# Altium integrated library NXP Semiconductors Standard MOSFETs.IntLib: 477 symbols (part 14 of 14)
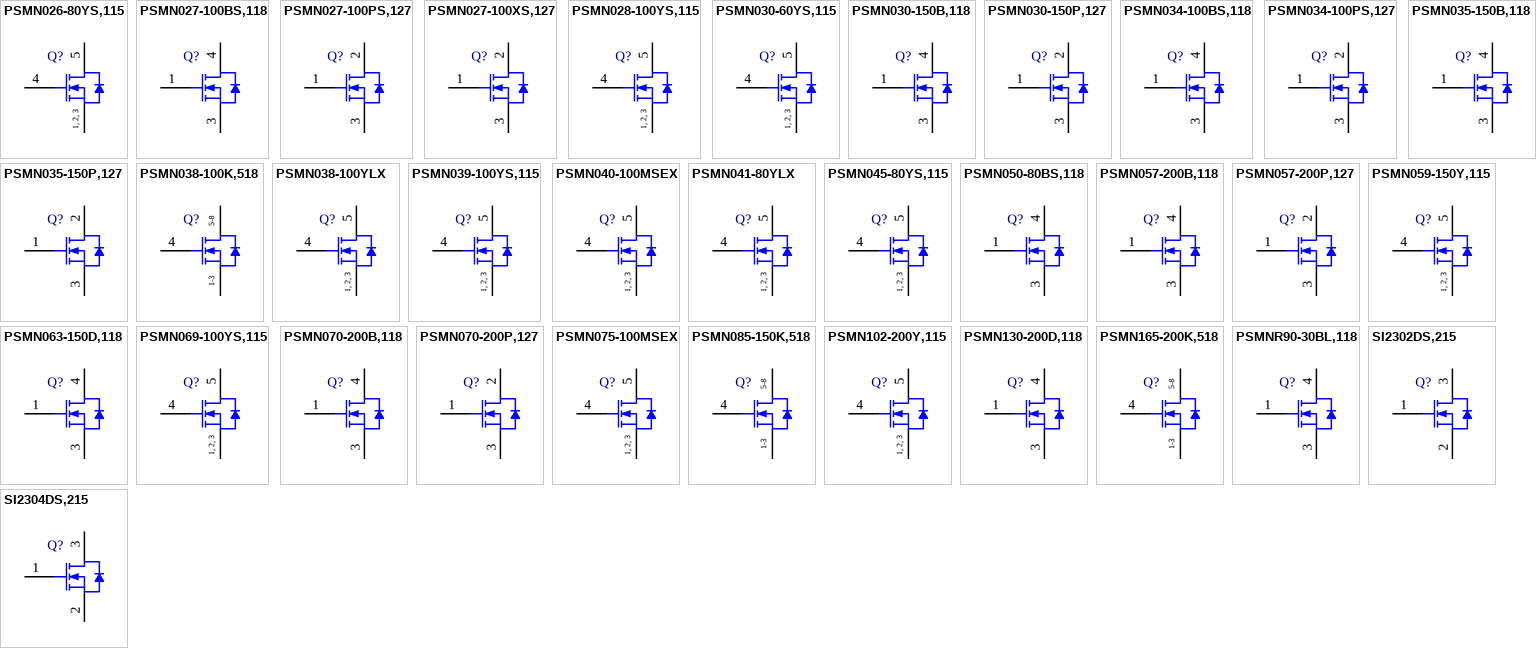
[diagram p25: symbols PSMN026-80YS,115 to SI2304DS,215]

## PSMN027-100BS,118
designator Q?
N-Channel Standard Level MOSFET, 100 V, 37 A, 3-Pin SOT404, Tape and Reel; Manufacturer: NXP Semiconductors; PartNumber: PSMN027-100BS,118; Channel Type: N; Ciss [typ] (pF): 1624; Coss [typ] (pF): 115; ID [max] (A): 37; Packing: Tape & Reel; Qr [typ] (nC): 91; VDS [max] (V): 100; VGSth [typ] (V): 3; DatasheetVersion: Rev. 2; PackageVersion: 13-02-25, 02/2013; PackageReference: SOT404; PackageDescription: 3-Pin Plastic Single-ended Surface Mounted Package, Body 10 x 9.6 mm, Pitch 2.54 mm; Supplier 1: Digi-Key; Supplier Part Number 1: 568-9701-2-ND; Supplier 2: Digi-Key; Supplier Part Number 2: 568-9701-1-ND; Supplier 3: Digi-Key; Supplier Part Number 3: 568-9701-6-ND; Supplier 4: Mouser; Supplier Part Number 4: 771-PSMN027-100BS118; Mounting Technology: Surface Mount; ComponentLink1Description: Manufacturer URL; ComponentLink1URL: http://www.nxp.com/; ComponentLink2Description: Datasheet; ComponentLink2URL: http://www.nxp.com/documents/data_sheet/PSMN027-100BS.pdf; ComponentLink3Description: Package Specification; ComponentLink3URL: http://www.nxp.com/documents/outline_drawing/sot404_po.pdf
footprint NXP-SOT404_N (DPAK, 3-Leads, Body 10.3x9.8mm, Pitch 2.54mm, IPC Medium Density)
footprint NXP-SOT404_L (DPAK, 3-Leads, Body 10.3x9.8mm, Pitch 2.54mm, IPC High Density)
footprint NXP-SOT404_M (DPAK, 3-Leads, Body 10.3x9.8mm, Pitch 2.54mm, IPC Low Density)
pins: 1 G "gate", 3 S "source", 4 D "mounting base; connected to drain"

## PSMN027-100PS,127
designator Q?
N-Channel Standard Level MOSFET, 100 V, 37 A, 3-Pin SOT78, Tube; Manufacturer: NXP Semiconductors; PartNumber: PSMN027-100PS,127; Channel Type: N; Ciss [typ] (pF): 1624; Coss [typ] (pF): 115; ID [max] (A): 37; Qr [typ] (nC): 91; VDS [max] (V): 100; VGSth [typ] (V): 3; DatasheetVersion: Rev. 3; PackageVersion: 08-06-13, 06/2008; PackageReference: SOT78; PackageDescription: 3-Pin Flange Mount, Vertical Straight Lead, Body 10 x 4.4 mm, Pitch 2.54 mm; Supplier 1: Digi-Key; Supplier Part Number 1: 568-5775-5-ND; Supplier 2: Mouser; Supplier Part Number 2: 771-PSMN027-100PS127; Packing: Tube; Mounting Technology: Through Hole; Code_JEITA: SC-46; Code_JEDEC: 3-lead TO-220AB; ComponentLink1Description: Manufacturer URL; ComponentLink1URL: http://www.nxp.com/; ComponentLink2Description: Datasheet; ComponentLink2URL: http://www.nxp.com/documents/data_sheet/PSMN027-100PS.pdf; ComponentLink3Description: Package Specification; ComponentLink3URL: http://www.nxp.com/documents/outline_drawing/sot078_po.pdf
footprint NXP-SOT78 (FM, 3-Leads, Body 10.3x4.7mm, Pitch 2.54mm)
pins: 1 G "gate", 2 D "drain", 3 S "source"

## PSMN027-100XS,127
designator Q?
N-Channel Standard Level MOSFET, 100 V, 23.4 A, 3-Pin SOT186A, Rail; Manufacturer: NXP Semiconductors; PartNumber: PSMN027-100XS,127; Channel Type: N; Ciss [typ] (pF): 1624; Coss [typ] (pF): 115; ID [max] (A): 23.4; Qr [typ] (nC): 73; VDS [max] (V): 100; VGSth [typ] (V): 3; DatasheetVersion: Rev. 2; PackageVersion: 06-02-14, 02/2006; PackageReference: SOT186A; PackageDescription: 3-Pin Flange Mount, Vertical Straight Lead, Body 10 x 4.3 mm, Pitch 2.54 mm; Supplier 1: Digi-Key; Supplier Part Number 1: 568-9501-5-ND; Supplier 2: Mouser; Supplier Part Number 2: 771-PSMN027-100XS127; Packing: Rail; Mounting Technology: Through Hole; Code_JEDEC: 3-lead TO-220F; ComponentLink1Description: Manufacturer URL; ComponentLink1URL: http://www.nxp.com/; ComponentLink2Description: Datasheet; ComponentLink2URL: http://www.nxp.com/documents/data_sheet/PSMN027-100XS.pdf; ComponentLink3Description: Package Specification; ComponentLink3URL: http://www.nxp.com/documents/outline_drawing/sot186a_po.pdf
footprint NXP-SOT186A (FM, 3-Leads, Body 10.3x4.6mm, Pitch 2.54mm)
pins: 1 G "gate", 2 D "drain", 3 S "source"

## PSMN028-100YS,115
designator Q?
N-Channel Standard Level MOSFET, 100 V, 42 A, 5-Pin SOT669, Tape and Reel; Manufacturer: NXP Semiconductors; PartNumber: PSMN028-100YS,115; Channel Type: N; Ciss [typ] (pF): 1634; Coss [typ] (pF): 132; ID [max] (A): 42; Packing: Tape & Reel; Qr [typ] (nC): 95.7; VDS [max] (V): 100; VGSth [typ] (V): 3; DatasheetVersion: Rev. 02; PackageVersion: 13-02-27, 02/2013; PackageReference: SOT669; PackageDescription: 4-Pin Plastic Single-ended Surface Mounted Package, Body 4.9 x 3.95 mm, Pitch 1.27 mm; Supplier 1: Digi-Key; Supplier Part Number 1: 568-6543-2-ND; Supplier 2: Digi-Key; Supplier Part Number 2: 568-6543-1-ND; Supplier 3: Digi-Key; Supplier Part Number 3: 568-6543-6-ND; Supplier 4: Mouser; Supplier Part Number 4: 771-PSMN028-100YS115; Mounting Technology: Surface Mount; Code_JEDEC: MO-235; ComponentLink1Description: Manufacturer URL; ComponentLink1URL: http://www.nxp.com/; ComponentLink2Description: Datasheet; ComponentLink2URL: http://www.nxp.com/documents/data_sheet/PSMN028-100YS.pdf; ComponentLink3Description: Package Specification; ComponentLink3URL: http://www.nxp.com/documents/outline_drawing/sot669_po.pdf
footprint NXP-SOT669_N (DPAK, 4-Leads, Body 5x4.1mm, Pitch 1.27mm, IPC Medium Density)
footprint NXP-SOT669_L (DPAK, 4-Leads, Body 5x4.1mm, Pitch 1.27mm, IPC High Density)
footprint NXP-SOT669_M (DPAK, 4-Leads, Body 5x4.1mm, Pitch 1.27mm, IPC Low Density)
pins: 1 S "source", 2 S "source", 3 S "source", 4 G "gate", 5 D "mounting base; connected to drain"
text: 1, 2, 3

## PSMN030-60YS,115
designator Q?
N-Channel Standard Level MOSFET, 60 V, 29 A, 5-Pin SOT669, Tape and Reel; Manufacturer: NXP Semiconductors; PartNumber: PSMN030-60YS,115; Channel Type: N; Ciss [typ] (pF): 686; Coss [typ] (pF): 109; ID [max] (A): 29; Packing: Tape & Reel; Qr [typ] (nC): 23; VDS [max] (V): 60; VGSth [typ] (V): 3; DatasheetVersion: Rev. 02; PackageVersion: 13-02-27, 02/2013; PackageReference: SOT669; PackageDescription: 4-Pin Plastic Single-ended Surface Mounted Package, Body 4.9 x 3.95 mm, Pitch 1.27 mm; Supplier 1: Digi-Key; Supplier Part Number 1: 568-5584-2-ND; Supplier 2: Digi-Key; Supplier Part Number 2: 568-5584-1-ND; Supplier 3: Digi-Key; Supplier Part Number 3: 568-5584-6-ND; Supplier 4: Mouser; Supplier Part Number 4: 771-PSMN030-60YS115; Mounting Technology: Surface Mount; Code_JEDEC: MO-235; ComponentLink1Description: Manufacturer URL; ComponentLink1URL: http://www.nxp.com/; ComponentLink2Description: Datasheet; ComponentLink2URL: http://www.nxp.com/documents/data_sheet/PSMN030-60YS.pdf; ComponentLink3Description: Package Specification; ComponentLink3URL: http://www.nxp.com/documents/outline_drawing/sot669_po.pdf
footprint NXP-SOT669_N (DPAK, 4-Leads, Body 5x4.1mm, Pitch 1.27mm, IPC Medium Density)
footprint NXP-SOT669_L (DPAK, 4-Leads, Body 5x4.1mm, Pitch 1.27mm, IPC High Density)
footprint NXP-SOT669_M (DPAK, 4-Leads, Body 5x4.1mm, Pitch 1.27mm, IPC Low Density)
pins: 1 S "source", 2 S "source", 3 S "source", 4 G "gate", 5 D "mounting base; connected to drain"
text: 1, 2, 3

## PSMN030-150B,118
designator Q?
N-Channel TrenchMOS SiliconMAX Standard Level FET, 150 V, 55.5 A, 3-Pin SOT404, Tape and Reel; Manufacturer: NXP Semiconductors; PartNumber: PSMN030-150B,118; Channel Type: N; Ciss [typ] (pF): 3680; Coss [typ] (pF): 470; ID [max] (A): 55.5; Packing: Tape & Reel; Qr [typ] (nC): 610; VDS [max] (V): 150; VGSth [typ] (V): 3; DatasheetVersion: Rev. 02; PackageVersion: 13-02-25, 02/2013; PackageReference: SOT404; PackageDescription: 3-Pin Plastic Single-ended Surface Mounted Package, Body 10 x 9.6 mm, Pitch 2.54 mm; Supplier 1: Digi-Key; Supplier Part Number 1: 568-5950-2-ND; Supplier 2: Digi-Key; Supplier Part Number 2: 568-5950-1-ND; Supplier 3: Digi-Key; Supplier Part Number 3: 568-5950-6-ND; Supplier 4: Mouser; Supplier Part Number 4: 771-PSMN030-150B118; Mounting Technology: Surface Mount; ComponentLink1Description: Manufacturer URL; ComponentLink1URL: http://www.nxp.com/; ComponentLink2Description: Datasheet; ComponentLink2URL: http://www.nxp.com/documents/data_sheet/PSMN030-150B.pdf; ComponentLink3Description: Package Specification; ComponentLink3URL: http://www.nxp.com/documents/outline_drawing/sot404_po.pdf
footprint NXP-SOT404_N (DPAK, 3-Leads, Body 10.3x9.8mm, Pitch 2.54mm, IPC Medium Density)
footprint NXP-SOT404_L (DPAK, 3-Leads, Body 10.3x9.8mm, Pitch 2.54mm, IPC High Density)
footprint NXP-SOT404_M (DPAK, 3-Leads, Body 10.3x9.8mm, Pitch 2.54mm, IPC Low Density)
pins: 1 G "gate", 3 S "source", 4 D "mounting base; connected to drain"

## PSMN030-150P,127
designator Q?
N-Channel TrenchMOS SiliconMAX Standard Level FET, 150 V, 55.5 A, 3-Pin SOT78, Tube; Manufacturer: NXP Semiconductors; PartNumber: PSMN030-150P,127; Channel Type: N; Ciss [typ] (pF): 3680; Coss [typ] (pF): 470; ID [max] (A): 55.5; Qr [typ] (nC): 610; VDS [max] (V): 150; VGSth [typ] (V): 3; DatasheetVersion: Rev. 02; PackageVersion: 08-06-13, 06/2008; PackageReference: SOT78; PackageDescription: 3-Pin Flange Mount, Vertical Straight Lead, Body 10 x 4.4 mm, Pitch 2.54 mm; Supplier 1: Digi-Key; Supplier Part Number 1: 568-5776-5-ND; Supplier 2: Newark; Supplier Part Number 2: 70R7938; Supplier 3: Mouser; Supplier Part Number 3: 771-PSMN030-150P127; Packing: Tube; Mounting Technology: Through Hole; Code_JEITA: SC-46; Code_JEDEC: 3-lead TO-220AB; ComponentLink1Description: Manufacturer URL; ComponentLink1URL: http://www.nxp.com/; ComponentLink2Description: Datasheet; ComponentLink2URL: http://www.nxp.com/documents/data_sheet/PSMN030-150P.pdf; ComponentLink3Description: Package Specification; ComponentLink3URL: http://www.nxp.com/documents/outline_drawing/sot078_po.pdf
footprint NXP-SOT78 (FM, 3-Leads, Body 10.3x4.7mm, Pitch 2.54mm)
pins: 1 G "gate", 2 D "drain", 3 S "source"

## PSMN034-100BS,118
designator Q?
N-Channel Standard Level MOSFET, 100 V, 32 A, 3-Pin SOT404, Tape and Reel; Manufacturer: NXP Semiconductors; PartNumber: PSMN034-100BS,118; Channel Type: N; Ciss [typ] (pF): 1201; Coss [typ] (pF): 94; ID [max] (A): 32; Packing: Tape & Reel; Qr [typ] (nC): 59; VDS [max] (V): 100; VGSth [typ] (V): 3; DatasheetVersion: Rev. 2; PackageVersion: 13-02-25, 02/2013; PackageReference: SOT404; PackageDescription: 3-Pin Plastic Single-ended Surface Mounted Package, Body 10 x 9.6 mm, Pitch 2.54 mm; Supplier 1: Digi-Key; Supplier Part Number 1: 568-9702-2-ND; Supplier 2: Digi-Key; Supplier Part Number 2: 568-9702-1-ND; Supplier 3: Digi-Key; Supplier Part Number 3: 568-9702-6-ND; Supplier 4: Mouser; Supplier Part Number 4: 771-PSMN034-100BS118; Mounting Technology: Surface Mount; ComponentLink1Description: Manufacturer URL; ComponentLink1URL: http://www.nxp.com/; ComponentLink2Description: Datasheet; ComponentLink2URL: http://www.nxp.com/documents/data_sheet/PSMN034-100BS.pdf; ComponentLink3Description: Package Specification; ComponentLink3URL: http://www.nxp.com/documents/outline_drawing/sot404_po.pdf
footprint NXP-SOT404_N (DPAK, 3-Leads, Body 10.3x9.8mm, Pitch 2.54mm, IPC Medium Density)
footprint NXP-SOT404_L (DPAK, 3-Leads, Body 10.3x9.8mm, Pitch 2.54mm, IPC High Density)
footprint NXP-SOT404_M (DPAK, 3-Leads, Body 10.3x9.8mm, Pitch 2.54mm, IPC Low Density)
pins: 1 G "gate", 3 S "source", 4 D "mounting base; connected to drain"

## PSMN034-100PS,127
designator Q?
N-Channel Standard Level MOSFET, 100 V, 32 A, 3-Pin SOT78, Tube; Manufacturer: NXP Semiconductors; PartNumber: PSMN034-100PS,127; Channel Type: N; Ciss [typ] (pF): 1201; Coss [typ] (pF): 94; ID [max] (A): 32; Qr [typ] (nC): 59; VDS [max] (V): 100; VGSth [typ] (V): 3; DatasheetVersion: Rev. 02; PackageVersion: 08-06-13, 06/2008; PackageReference: SOT78; PackageDescription: 3-Pin Flange Mount, Vertical Straight Lead, Body 10 x 4.4 mm, Pitch 2.54 mm; Supplier 1: Digi-Key; Supplier Part Number 1: 568-5777-5-ND; Supplier 2: Mouser; Supplier Part Number 2: 771-PSMN034-100PS127; Packing: Tube; Mounting Technology: Through Hole; Code_JEITA: SC-46; Code_JEDEC: 3-lead TO-220AB; ComponentLink1Description: Manufacturer URL; ComponentLink1URL: http://www.nxp.com/; ComponentLink2Description: Datasheet; ComponentLink2URL: http://www.nxp.com/documents/data_sheet/PSMN034-100PS.pdf; ComponentLink3Description: Package Specification; ComponentLink3URL: http://www.nxp.com/documents/outline_drawing/sot078_po.pdf
footprint NXP-SOT78 (FM, 3-Leads, Body 10.3x4.7mm, Pitch 2.54mm)
pins: 1 G "gate", 2 D "drain", 3 S "source"

## PSMN035-150B,118
designator Q?
N-Channel TrenchMOS SiliconMAX Standard Level FET, 150 V, 50 A, 3-Pin SOT404, Tape and Reel; Manufacturer: NXP Semiconductors; PartNumber: PSMN035-150B,118; Channel Type: N; Ciss [typ] (pF): 4720; Coss [typ] (pF): 456; ID [max] (A): 50; Packing: Tape & Reel; Qr [typ] (nC): 0.66; VDS [max] (V): 150; VGSth [typ] (V): 3; DatasheetVersion: Rev. 04; PackageVersion: 13-02-25, 02/2013; PackageReference: SOT404; PackageDescription: 3-Pin Plastic Single-ended Surface Mounted Package, Body 10 x 9.6 mm, Pitch 2.54 mm; Supplier 1: Digi-Key; Supplier Part Number 1: 568-5951-2-ND; Supplier 2: Digi-Key; Supplier Part Number 2: 568-5951-1-ND; Supplier 3: Digi-Key; Supplier Part Number 3: 568-5951-6-ND; Supplier 4: Mouser; Supplier Part Number 4: 771-PSMN035-150B118; Mounting Technology: Surface Mount; ComponentLink1Description: Manufacturer URL; ComponentLink1URL: http://www.nxp.com/; ComponentLink2Description: Datasheet; ComponentLink2URL: http://www.nxp.com/documents/data_sheet/PSMN035-150B.pdf; ComponentLink3Description: Package Specification; ComponentLink3URL: http://www.nxp.com/documents/outline_drawing/sot404_po.pdf
footprint NXP-SOT404_N (DPAK, 3-Leads, Body 10.3x9.8mm, Pitch 2.54mm, IPC Medium Density)
footprint NXP-SOT404_L (DPAK, 3-Leads, Body 10.3x9.8mm, Pitch 2.54mm, IPC High Density)
footprint NXP-SOT404_M (DPAK, 3-Leads, Body 10.3x9.8mm, Pitch 2.54mm, IPC Low Density)
pins: 1 G "gate", 3 S "source", 4 D "mounting base; connected to drain"

## PSMN035-150P,127
designator Q?
N-Channel TrenchMOS SiliconMAX Standard Level FET, 150 V, 50 A, 3-Pin SOT78, Tube; Manufacturer: NXP Semiconductors; PartNumber: PSMN035-150P,127; Channel Type: N; Ciss [typ] (pF): 4720; Coss [typ] (pF): 456; ID [max] (A): 50; Qr [typ] (nC): 0.66; VDS [max] (V): 150; VGSth [typ] (V): 3; DatasheetVersion: Rev. 04; PackageVersion: 08-06-13, 06/2008; PackageReference: SOT78; PackageDescription: 3-Pin Flange Mount, Vertical Straight Lead, Body 10 x 4.4 mm, Pitch 2.54 mm; Supplier 1: Digi-Key; Supplier Part Number 1: 568-5778-5-ND; Supplier 2: Mouser; Supplier Part Number 2: 771-PSMN035-150P127; Packing: Tube; Mounting Technology: Through Hole; Code_JEITA: SC-46; Code_JEDEC: 3-lead TO-220AB; ComponentLink1Description: Manufacturer URL; ComponentLink1URL: http://www.nxp.com/; ComponentLink2Description: Datasheet; ComponentLink2URL: http://www.nxp.com/documents/data_sheet/PSMN035-150P.pdf; ComponentLink3Description: Package Specification; ComponentLink3URL: http://www.nxp.com/documents/outline_drawing/sot078_po.pdf
footprint NXP-SOT78 (FM, 3-Leads, Body 10.3x4.7mm, Pitch 2.54mm)
pins: 1 G "gate", 2 D "drain", 3 S "source"

## PSMN038-100K,518
designator Q?
N-Channel TrenchMOS SiliconMAX Standard Level FET, 100 V, 6.3 A, 8-Pin SOT96-1, Reel; Manufacturer: NXP Semiconductors; PartNumber: PSMN038-100K,518; Channel Type: N; Ciss [typ] (pF): 1740; Coss [typ] (pF): 220; Qr [typ] (nC): 300; VDS [max] (V): 100; Code_IEC: 76000; DatasheetVersion: Rev. 02; PackageVersion: 03-02-18, 02/2003; PackageReference: SOT96-1; PackageDescription: 8-Pin Plastic Small Outline Package, Body 4.9 x 3.9 mm, Pitch 1.27 mm; Supplier 1: Digi-Key; Supplier Part Number 1: PSMN038-100K,518-ND; Supplier 2: Mouser; Supplier Part Number 2: 771-PSMN038-100K518; Packing: Reel; Mounting Technology: Surface Mount; Code_JEDEC: MS-012; ComponentLink1Description: Manufacturer URL; ComponentLink1URL: http://www.nxp.com/; ComponentLink2Description: Datasheet; ComponentLink2URL: http://www.nxp.com/documents/data_sheet/PSMN038-100K.pdf; ComponentLink3Description: Package Specification; ComponentLink3URL: http://www.nxp.com/documents/outline_drawing/sot096-1_po.pdf
footprint NXP-SOT96-1_N (SOIC, 8-Leads, Body 5x4mm, Pitch 1.27mm, IPC Medium Density)
footprint NXP-SOT96-1_L (SOIC, 8-Leads, Body 5x4mm, Pitch 1.27mm, IPC High Density)
footprint NXP-SOT96-1_M (SOIC, 8-Leads, Body 5x4mm, Pitch 1.27mm, IPC Low Density)
pins: 1 S "source", 2 S "source", 3 S "source", 4 G "gate", 5 D "drain", 6 D "drain", 7 D "drain", 8 D "drain"
text: 5-8; 1-3

## PSMN038-100YLX
designator Q?
N-Channel Logic Level MOSFET, 100 V, 30 A, 5-Pin SOT669, Tape and Reel; Manufacturer: NXP Semiconductors; PartNumber: PSMN038-100YLX; Channel Type: N; Ciss [typ] (pF): 1905; Coss [typ] (pF): 137; ID [max] (A): 30; Packing: Tape & Reel; Qr [typ] (nC): 44; VDS [max] (V): 100; VGSth [typ] (V): 1.7; PackageVersion: 13-02-27, 02/2013; PackageReference: SOT669; PackageDescription: 4-Pin Plastic Single-ended Surface Mounted Package, Body 4.9 x 3.95 mm, Pitch 1.27 mm; Supplier 1: Digi-Key; Supplier Part Number 1: 568-11429-2-ND; Supplier 2: Digi-Key; Supplier Part Number 2: 568-11429-1-ND; Supplier 3: Digi-Key; Supplier Part Number 3: 568-11429-6-ND; Supplier 4: Mouser; Supplier Part Number 4: 771-PSMN038100YLX; Mounting Technology: Surface Mount; Code_JEDEC: MO-235; ComponentLink1Description: Manufacturer URL; ComponentLink1URL: http://www.nxp.com/; ComponentLink2Description: Datasheet; ComponentLink2URL: http://www.nxp.com/documents/data_sheet/PSMN038-100YL.pdf; ComponentLink3Description: Package Specification; ComponentLink3URL: http://www.nxp.com/documents/outline_drawing/sot669_po.pdf
footprint NXP-SOT669_N (DPAK, 4-Leads, Body 5x4.1mm, Pitch 1.27mm, IPC Medium Density)
footprint NXP-SOT669_L (DPAK, 4-Leads, Body 5x4.1mm, Pitch 1.27mm, IPC High Density)
footprint NXP-SOT669_M (DPAK, 4-Leads, Body 5x4.1mm, Pitch 1.27mm, IPC Low Density)
pins: 1 S "source", 2 S "source", 3 S "source", 4 G "gate", 5 D "mounting base; connected to drain"
text: 1, 2, 3

## PSMN039-100YS,115
designator Q?
N-Channel Standard Level MOSFET, 100 V, 28.1 A, 5-Pin SOT669, Tape and Reel; Manufacturer: NXP Semiconductors; PartNumber: PSMN039-100YS,115; Channel Type: N; Ciss [typ] (pF): 1847; Coss [typ] (pF): 86; ID [max] (A): 28.1; Packing: Tape & Reel; Qr [typ] (nC): 78; VDS [max] (V): 100; VGSth [typ] (V): 3; DatasheetVersion: Rev. 02; PackageVersion: 13-02-27, 02/2013; PackageReference: SOT669; PackageDescription: 4-Pin Plastic Single-ended Surface Mounted Package, Body 4.9 x 3.95 mm, Pitch 1.27 mm; Supplier 1: Digi-Key; Supplier Part Number 1: 568-5586-2-ND; Supplier 2: Digi-Key; Supplier Part Number 2: 568-5586-1-ND; Supplier 3: Digi-Key; Supplier Part Number 3: 568-5586-6-ND; Supplier 4: Mouser; Supplier Part Number 4: 771-PSMN039-100YS115; Mounting Technology: Surface Mount; Code_JEDEC: MO-235; ComponentLink1Description: Manufacturer URL; ComponentLink1URL: http://www.nxp.com/; ComponentLink2Description: Datasheet; ComponentLink2URL: http://www.nxp.com/documents/data_sheet/PSMN039-100YS.pdf; ComponentLink3Description: Package Specification; ComponentLink3URL: http://www.nxp.com/documents/outline_drawing/sot669_po.pdf
footprint NXP-SOT669_N (DPAK, 4-Leads, Body 5x4.1mm, Pitch 1.27mm, IPC Medium Density)
footprint NXP-SOT669_L (DPAK, 4-Leads, Body 5x4.1mm, Pitch 1.27mm, IPC High Density)
footprint NXP-SOT669_M (DPAK, 4-Leads, Body 5x4.1mm, Pitch 1.27mm, IPC Low Density)
pins: 1 S "source", 2 S "source", 3 S "source", 4 G "gate", 5 D "mounting base; connected to drain"
text: 1, 2, 3

## PSMN040-100MSEX
designator Q?
N-Channel Standard Level MOSFET Designed Specifically for High Power PoE Applications, 100 V, 30 A, 5-Pin SOT1210, Reel; Manufacturer: NXP Semiconductors; PartNumber: PSMN040-100MSEX; Channel Type: N; Ciss [typ] (pF): 1470; Coss [typ] (pF): 110; ID [max] (A): 30; Qr [typ] (nC): 75; VDS [max] (V): 100; VGSth [typ] (V): 3.3; PackageVersion: 14-04-25, 04/2014; PackageReference: SOT1210; PackageDescription: 8-Pin Plastic Single-ended Surface Mounted Package, Body 3.3 x 2.6 mm, Pitch 0.65 mm; Supplier 1: Digi-Key; Supplier Part Number 1: 568-10232-2-ND; Supplier 2: Digi-Key; Supplier Part Number 2: 568-10232-1-ND; Supplier 3: Digi-Key; Supplier Part Number 3: 568-10232-6-ND; Supplier 4: Mouser; Supplier Part Number 4: 771-PSMN040-100MSEX; Packing: Reel; Mounting Technology: Surface Mount; ComponentLink1Description: Manufacturer URL; ComponentLink1URL: http://www.nxp.com/; ComponentLink2Description: Datasheet; ComponentLink2URL: http://www.nxp.com/documents/data_sheet/PSMN040-100MSE.pdf; ComponentLink3Description: Package Specification; ComponentLink3URL: http://www.nxp.com/documents/outline_drawing/sot1210_po.pdf
footprint NXP-SOT1210_N (DPAK, 5-Leads, Body 3.4x2.7mm, Pitch 0.65mm, IPC Medium Density)
footprint NXP-SOT1210_L (DPAK, 5-Leads, Body 3.4x2.7mm, Pitch 0.65mm, IPC High Density)
footprint NXP-SOT1210_M (DPAK, 5-Leads, Body 3.4x2.7mm, Pitch 0.65mm, IPC Low Density)
pins: 1 S "source", 2 S "source", 3 S "source", 4 G "gate", 5 D "mounting base; connected to drain"
text: 1, 2, 3

## PSMN041-80YLX
designator Q?
N-Channel Logic Level MOSFET, 80 V, 25 A, 5-Pin SOT669, Tape and Reel; Manufacturer: NXP Semiconductors; PartNumber: PSMN041-80YLX; Channel Type: N; Ciss [typ] (pF): 1180; Coss [typ] (pF): 99; ID [max] (A): 25; Packing: Tape & Reel; Qr [typ] (nC): 22; VDS [max] (V): 80; VGSth [typ] (V): 1.7; PackageVersion: 13-02-27, 02/2013; PackageReference: SOT669; PackageDescription: 4-Pin Plastic Single-ended Surface Mounted Package, Body 4.9 x 3.95 mm, Pitch 1.27 mm; Supplier 1: Digi-Key; Supplier Part Number 1: 568-10987-2-ND; Supplier 2: Digi-Key; Supplier Part Number 2: 568-10987-1-ND; Supplier 3: Digi-Key; Supplier Part Number 3: 568-10987-6-ND; Supplier 4: Newark; Supplier Part Number 4: 97W2529; Supplier 5: Mouser; Supplier Part Number 5: 771-PSMN04180YLX; Mounting Technology: Surface Mount; Code_JEDEC: MO-235; ComponentLink1Description: Manufacturer URL; ComponentLink1URL: http://www.nxp.com/; ComponentLink2Description: Datasheet; ComponentLink2URL: http://www.nxp.com/documents/data_sheet/PSMN041-80YL.pdf; ComponentLink3Description: Package Specification; ComponentLink3URL: http://www.nxp.com/documents/outline_drawing/sot669_po.pdf
footprint NXP-SOT669_N (DPAK, 4-Leads, Body 5x4.1mm, Pitch 1.27mm, IPC Medium Density)
footprint NXP-SOT669_L (DPAK, 4-Leads, Body 5x4.1mm, Pitch 1.27mm, IPC High Density)
footprint NXP-SOT669_M (DPAK, 4-Leads, Body 5x4.1mm, Pitch 1.27mm, IPC Low Density)
pins: 1 S "source", 2 S "source", 3 S "source", 4 G "gate", 5 D "mounting base; connected to drain"
text: 1, 2, 3

## PSMN045-80YS,115
designator Q?
N-Channel Standard Level MOSFET, 80 V, 24 A, 5-Pin SOT669, Tape and Reel; Manufacturer: NXP Semiconductors; PartNumber: PSMN045-80YS,115; Channel Type: N; Ciss [typ] (pF): 675; Coss [typ] (pF): 79; ID [max] (A): 24; Packing: Tape & Reel; Qr [typ] (nC): 42; VDS [max] (V): 80; VGSth [typ] (V): 3; DatasheetVersion: Rev. 02; PackageVersion: 13-02-27, 02/2013; PackageReference: SOT669; PackageDescription: 4-Pin Plastic Single-ended Surface Mounted Package, Body 4.9 x 3.95 mm, Pitch 1.27 mm; Supplier 1: Digi-Key; Supplier Part Number 1: 568-5587-2-ND; Supplier 2: Digi-Key; Supplier Part Number 2: 568-5587-1-ND; Supplier 3: Digi-Key; Supplier Part Number 3: 568-5587-6-ND; Supplier 4: Newark; Supplier Part Number 4: 99R2973; Supplier 5: Mouser; Supplier Part Number 5: 771-PSMN04580YS115; Mounting Technology: Surface Mount; Code_JEDEC: MO-235; ComponentLink1Description: Manufacturer URL; ComponentLink1URL: http://www.nxp.com/; ComponentLink2Description: Datasheet; ComponentLink2URL: http://www.nxp.com/documents/data_sheet/PSMN045-80YS.pdf; ComponentLink3Description: Package Specification; ComponentLink3URL: http://www.nxp.com/documents/outline_drawing/sot669_po.pdf
footprint NXP-SOT669_N (DPAK, 4-Leads, Body 5x4.1mm, Pitch 1.27mm, IPC Medium Density)
footprint NXP-SOT669_L (DPAK, 4-Leads, Body 5x4.1mm, Pitch 1.27mm, IPC High Density)
footprint NXP-SOT669_M (DPAK, 4-Leads, Body 5x4.1mm, Pitch 1.27mm, IPC Low Density)
pins: 1 S "source", 2 S "source", 3 S "source", 4 G "gate", 5 D "mounting base; connected to drain"
text: 1, 2, 3

## PSMN050-80BS,118
designator Q?
N-Channel Standard Level MOSFET, 80 V, 22 A, 3-Pin SOT404, Tape and Reel; Manufacturer: NXP Semiconductors; PartNumber: PSMN050-80BS,118; Channel Type: N; Ciss [typ] (pF): 633; Coss [typ] (pF): 100; ID [max] (A): 22; Packing: Tape & Reel; Qr [typ] (nC): 28; VDS [max] (V): 80; VGSth [typ] (V): 3; DatasheetVersion: Rev. 1; PackageVersion: 13-02-25, 02/2013; PackageReference: SOT404; PackageDescription: 3-Pin Plastic Single-ended Surface Mounted Package, Body 10 x 9.6 mm, Pitch 2.54 mm; Supplier 1: Digi-Key; Supplier Part Number 1: 568-9703-2-ND; Supplier 2: Digi-Key; Supplier Part Number 2: 568-9703-1-ND; Supplier 3: Digi-Key; Supplier Part Number 3: 568-9703-6-ND; Supplier 4: Mouser; Supplier Part Number 4: 771-PSMN050-80BS,118; Mounting Technology: Surface Mount; ComponentLink1Description: Manufacturer URL; ComponentLink1URL: http://www.nxp.com/; ComponentLink2Description: Datasheet; ComponentLink2URL: http://www.nxp.com/documents/data_sheet/PSMN050-80BS.pdf; ComponentLink3Description: Package Specification; ComponentLink3URL: http://www.nxp.com/documents/outline_drawing/sot404_po.pdf
footprint NXP-SOT404_N (DPAK, 3-Leads, Body 10.3x9.8mm, Pitch 2.54mm, IPC Medium Density)
footprint NXP-SOT404_L (DPAK, 3-Leads, Body 10.3x9.8mm, Pitch 2.54mm, IPC High Density)
footprint NXP-SOT404_M (DPAK, 3-Leads, Body 10.3x9.8mm, Pitch 2.54mm, IPC Low Density)
pins: 1 G "gate", 3 S "source", 4 D "mounting base; connected to drain"

## PSMN057-200B,118
designator Q?
N-Channel TrenchMOS SiliconMAX Standard Level FET, 200 V, 39 A, 3-Pin SOT404, Tape and Reel; Manufacturer: NXP Semiconductors; PartNumber: PSMN057-200B,118; Channel Type: N; Ciss [typ] (pF): 3750; Coss [typ] (pF): 385; ID [max] (A): 39; Packing: Tape & Reel; Qr [typ] (nC): 895; VDS [max] (V): 200; VGSth [typ] (V): 3; PackageVersion: 13-02-25, 02/2013; PackageReference: SOT404; PackageDescription: 3-Pin Plastic Single-ended Surface Mounted Package, Body 10 x 9.6 mm, Pitch 2.54 mm; Supplier 1: Digi-Key; Supplier Part Number 1: 568-5952-2-ND; Supplier 2: Digi-Key; Supplier Part Number 2: 568-5952-1-ND; Supplier 3: Digi-Key; Supplier Part Number 3: 568-5952-6-ND; Supplier 4: Mouser; Supplier Part Number 4: 771-PSMN057-200B/T3; Mounting Technology: Surface Mount; ComponentLink1Description: Manufacturer URL; ComponentLink1URL: http://www.nxp.com/; ComponentLink2Description: Datasheet; ComponentLink2URL: http://www.nxp.com/documents/data_sheet/PSMN057-200B.pdf; ComponentLink3Description: Package Specification; ComponentLink3URL: http://www.nxp.com/documents/outline_drawing/sot404_po.pdf
footprint NXP-SOT404_N (DPAK, 3-Leads, Body 10.3x9.8mm, Pitch 2.54mm, IPC Medium Density)
footprint NXP-SOT404_L (DPAK, 3-Leads, Body 10.3x9.8mm, Pitch 2.54mm, IPC High Density)
footprint NXP-SOT404_M (DPAK, 3-Leads, Body 10.3x9.8mm, Pitch 2.54mm, IPC Low Density)
pins: 1 G "gate", 3 S "source", 4 D "mounting base; connected to drain"

## PSMN057-200P,127
designator Q?
N-Channel TrenchMOS SiliconMAX Standard Level FET, 200 V, 39 A, 3-Pin SOT78, Tube; Manufacturer: NXP Semiconductors; PartNumber: PSMN057-200P,127; Channel Type: N; Ciss [typ] (pF): 3750; Coss [typ] (pF): 385; ID [max] (A): 39; Qr [typ] (nC): 895; VDS [max] (V): 200; VGSth [typ] (V): 3; DatasheetVersion: Rev. 02; PackageVersion: 08-06-13, 06/2008; PackageReference: SOT78; PackageDescription: 3-Pin Flange Mount, Vertical Straight Lead, Body 10 x 4.4 mm, Pitch 2.54 mm; Supplier 1: Digi-Key; Supplier Part Number 1: 568-6641-5-ND; Supplier 2: Mouser; Supplier Part Number 2: 771-PSMN057-200P127; Packing: Tube; Mounting Technology: Through Hole; Code_JEITA: SC-46; Code_JEDEC: 3-lead TO-220AB; ComponentLink1Description: Manufacturer URL; ComponentLink1URL: http://www.nxp.com/; ComponentLink2Description: Datasheet; ComponentLink2URL: http://www.nxp.com/documents/data_sheet/PSMN057-200P.pdf; ComponentLink3Description: Package Specification; ComponentLink3URL: http://www.nxp.com/documents/outline_drawing/sot078_po.pdf
footprint NXP-SOT78 (FM, 3-Leads, Body 10.3x4.7mm, Pitch 2.54mm)
pins: 1 G "gate", 2 D "drain", 3 S "source"

## PSMN059-150Y,115
designator Q?
N-Channel TrenchMOS SiliconMAX Standard Level FET, 150 V, 43 A, 5-Pin SOT669, Tape and Reel; Manufacturer: NXP Semiconductors; PartNumber: PSMN059-150Y,115; Channel Type: N; Ciss [typ] (pF): 1529; Coss [typ] (pF): 208; ID [max] (A): 43; Packing: Tape & Reel; Qr [typ] (nC): 226; VDS [max] (V): 150; VGSth [typ] (V): 3; PackageVersion: 13-02-27, 02/2013; PackageReference: SOT669; PackageDescription: 4-Pin Plastic Single-ended Surface Mounted Package, Body 4.9 x 3.95 mm, Pitch 1.27 mm; Supplier 1: Digi-Key; Supplier Part Number 1: 568-4734-2-ND; Supplier 2: Digi-Key; Supplier Part Number 2: 568-4734-1-ND; Supplier 3: Digi-Key; Supplier Part Number 3: 568-4734-6-ND; Supplier 4: Newark; Supplier Part Number 4: 70R7945; Supplier 5: Mouser; Supplier Part Number 5: 771-PSMN059-150Y,115; Mounting Technology: Surface Mount; Code_JEDEC: MO-235; ComponentLink1Description: Manufacturer URL; ComponentLink1URL: http://www.nxp.com/; ComponentLink2Description: Datasheet; ComponentLink2URL: http://www.nxp.com/documents/data_sheet/PSMN059-150Y.pdf; ComponentLink3Description: Package Specification; ComponentLink3URL: http://www.nxp.com/documents/outline_drawing/sot669_po.pdf
footprint NXP-SOT669_N (DPAK, 4-Leads, Body 5x4.1mm, Pitch 1.27mm, IPC Medium Density)
footprint NXP-SOT669_L (DPAK, 4-Leads, Body 5x4.1mm, Pitch 1.27mm, IPC High Density)
footprint NXP-SOT669_M (DPAK, 4-Leads, Body 5x4.1mm, Pitch 1.27mm, IPC Low Density)
pins: 1 S "source", 2 S "source", 3 S "source", 4 G "gate", 5 D "mounting base; connected to drain"
text: 1, 2, 3

## PSMN063-150D,118
designator Q?
N-Channel TrenchMOS SiliconMAX Standard Level FET, 150 V, 29 A, 3-Pin SOT428, Tape and Reel; Manufacturer: NXP Semiconductors; PartNumber: PSMN063-150D,118; Channel Type: N; Ciss [typ] (pF): 2390; Coss [typ] (pF): 240; ID [max] (A): 29; Packing: Tape & Reel; Qr [typ] (nC): 550; VDS [max] (V): 150; VGSth [typ] (V): 3; DatasheetVersion: Rev. 04; PackageVersion: 14-06-10, 06/2014; PackageReference: SOT428; PackageDescription: 3-Pin Plastic Single-ended Surface Mounted Package, Body 6.1 x 6.6 mm, Pitch 2.285 mm; Supplier 1: Digi-Key; Supplier Part Number 1: PSMN063-150D,118-ND; Supplier 2: Newark; Supplier Part Number 2: 70R7946; Supplier 3: Mouser; Supplier Part Number 3: 771-PSMN063-150D118; Mounting Technology: Surface Mount; Code_JEITA: SC-63; Code_JEDEC: TO-252; ComponentLink1Description: Manufacturer URL; ComponentLink1URL: http://www.nxp.com/; ComponentLink2Description: Datasheet; ComponentLink2URL: http://www.nxp.com/documents/data_sheet/PSMN063-150D.pdf; ComponentLink3Description: Package Specification; ComponentLink3URL: http://www.nxp.com/documents/outline_drawing/sot428_po.pdf
footprint NXP-SOT428_N (DPAK, 3-Leads, Body 6.75x6.22mm, Pitch 2.29mm, IPC Medium Density)
footprint NXP-SOT428_L (DPAK, 3-Leads, Body 6.75x6.22mm, Pitch 2.29mm, IPC High Density)
footprint NXP-SOT428_M (DPAK, 3-Leads, Body 6.75x6.22mm, Pitch 2.29mm, IPC Low Density)
pins: 1 G "gate", 3 S "source", 4 D "mounting base; connected to drain"

## PSMN069-100YS,115
designator Q?
N-Channel Standard Level MOSFET, 100 V, 17 A, 5-Pin SOT669, Tape and Reel; Manufacturer: NXP Semiconductors; PartNumber: PSMN069-100YS,115; Channel Type: N; Ciss [typ] (pF): 645; Coss [typ] (pF): 63; ID [max] (A): 17; Packing: Tape & Reel; Qr [typ] (nC): 74; VDS [max] (V): 100; VGSth [typ] (V): 3; DatasheetVersion: Rev. 02; PackageVersion: 13-02-27, 02/2013; PackageReference: SOT669; PackageDescription: 4-Pin Plastic Single-ended Surface Mounted Package, Body 4.9 x 3.95 mm, Pitch 1.27 mm; Supplier 1: Digi-Key; Supplier Part Number 1: 568-5588-2-ND; Supplier 2: Digi-Key; Supplier Part Number 2: 568-5588-1-ND; Supplier 3: Digi-Key; Supplier Part Number 3: 568-5588-6-ND; Supplier 4: Mouser; Supplier Part Number 4: 771-PSMN069-100YS115; Mounting Technology: Surface Mount; Code_JEDEC: MO-235; ComponentLink1Description: Manufacturer URL; ComponentLink1URL: http://www.nxp.com/; ComponentLink2Description: Datasheet; ComponentLink2URL: http://www.nxp.com/documents/data_sheet/PSMN069-100YS.pdf; ComponentLink3Description: Package Specification; ComponentLink3URL: http://www.nxp.com/documents/outline_drawing/sot669_po.pdf
footprint NXP-SOT669_N (DPAK, 4-Leads, Body 5x4.1mm, Pitch 1.27mm, IPC Medium Density)
footprint NXP-SOT669_L (DPAK, 4-Leads, Body 5x4.1mm, Pitch 1.27mm, IPC High Density)
footprint NXP-SOT669_M (DPAK, 4-Leads, Body 5x4.1mm, Pitch 1.27mm, IPC Low Density)
pins: 1 S "source", 2 S "source", 3 S "source", 4 G "gate", 5 D "mounting base; connected to drain"
text: 1, 2, 3

## PSMN070-200B,118
designator Q?
N-Channel TrenchMOS SiliconMAX Standard Level FET, 200 V, 35 A, 3-Pin SOT404, Tape and Reel; Manufacturer: NXP Semiconductors; PartNumber: PSMN070-200B,118; Channel Type: N; Ciss [typ] (pF): 4570; Coss [typ] (pF): 370; ID [max] (A): 35; Packing: Tape & Reel; Qr [typ] (nC): 1000; VDS [max] (V): 200; VGSth [typ] (V): 3; DatasheetVersion: Rev. 04; PackageVersion: 13-02-25, 02/2013; PackageReference: SOT404; PackageDescription: 3-Pin Plastic Single-ended Surface Mounted Package, Body 10 x 9.6 mm, Pitch 2.54 mm; Supplier 1: Digi-Key; Supplier Part Number 1: 568-5953-2-ND; Supplier 2: Digi-Key; Supplier Part Number 2: 568-5953-1-ND; Supplier 3: Digi-Key; Supplier Part Number 3: 568-5953-6-ND; Supplier 4: Mouser; Supplier Part Number 4: 771-PSMN070-200B118; Mounting Technology: Surface Mount; ComponentLink1Description: Manufacturer URL; ComponentLink1URL: http://www.nxp.com/; ComponentLink2Description: Datasheet; ComponentLink2URL: http://www.nxp.com/documents/data_sheet/PSMN070-200B.pdf; ComponentLink3Description: Package Specification; ComponentLink3URL: http://www.nxp.com/documents/outline_drawing/sot404_po.pdf
footprint NXP-SOT404_N (DPAK, 3-Leads, Body 10.3x9.8mm, Pitch 2.54mm, IPC Medium Density)
footprint NXP-SOT404_L (DPAK, 3-Leads, Body 10.3x9.8mm, Pitch 2.54mm, IPC High Density)
footprint NXP-SOT404_M (DPAK, 3-Leads, Body 10.3x9.8mm, Pitch 2.54mm, IPC Low Density)
pins: 1 G "gate", 3 S "source", 4 D "mounting base; connected to drain"

## PSMN070-200P,127
designator Q?
N-Channel TrenchMOS SiliconMAX Standard Level FET, 200 V, 35 A, 3-Pin SOT78, Tube; Manufacturer: NXP Semiconductors; PartNumber: PSMN070-200P,127; Channel Type: N; Ciss [typ] (pF): 4570; Coss [typ] (pF): 370; ID [max] (A): 35; Qr [typ] (nC): 1000; VDS [max] (V): 200; VGSth [typ] (V): 3; DatasheetVersion: Rev. 04; PackageVersion: 08-06-13, 06/2008; PackageReference: SOT78; PackageDescription: 3-Pin Flange Mount, Vertical Straight Lead, Body 10 x 4.4 mm, Pitch 2.54 mm; Supplier 1: Digi-Key; Supplier Part Number 1: 568-5779-5-ND; Supplier 2: Mouser; Supplier Part Number 2: 771-PSMN070-200P127; Packing: Tube; Mounting Technology: Through Hole; Code_JEITA: SC-46; Code_JEDEC: 3-lead TO-220AB; ComponentLink1Description: Manufacturer URL; ComponentLink1URL: http://www.nxp.com/; ComponentLink2Description: Datasheet; ComponentLink2URL: http://www.nxp.com/documents/data_sheet/PSMN070-200P.pdf; ComponentLink3Description: Package Specification; ComponentLink3URL: http://www.nxp.com/documents/outline_drawing/sot078_po.pdf
footprint NXP-SOT78 (FM, 3-Leads, Body 10.3x4.7mm, Pitch 2.54mm)
pins: 1 G "gate", 2 D "drain", 3 S "source"

## PSMN075-100MSEX
designator Q?
N-Channel Standard Level MOSFET Designed Specifically for PoE Applications, 100 V, 18 A, 5-Pin SOT1210, Reel; Manufacturer: NXP Semiconductors; PartNumber: PSMN075-100MSEX; Channel Type: N; Ciss [typ] (pF): 773; Coss [typ] (pF): 66; ID [max] (A): 18; Qr [typ] (nC): 50.7; VDS [max] (V): 100; VGSth [typ] (V): 3.3; PackageVersion: 14-04-25, 04/2014; PackageReference: SOT1210; PackageDescription: 8-Pin Plastic Single-ended Surface Mounted Package, Body 3.3 x 2.6 mm, Pitch 0.65 mm; Supplier 1: Digi-Key; Supplier Part Number 1: 568-10231-2-ND; Supplier 2: Digi-Key; Supplier Part Number 2: 568-10231-1-ND; Supplier 3: Digi-Key; Supplier Part Number 3: 568-10231-6-ND; Supplier 4: Mouser; Supplier Part Number 4: 771-PSMN075-100MSEX; Packing: Reel; Mounting Technology: Surface Mount; ComponentLink1Description: Manufacturer URL; ComponentLink1URL: http://www.nxp.com/; ComponentLink2Description: Datasheet; ComponentLink2URL: http://www.nxp.com/documents/data_sheet/PSMN075-100MSE.pdf; ComponentLink3Description: Package Specification; ComponentLink3URL: http://www.nxp.com/documents/outline_drawing/sot1210_po.pdf
footprint NXP-SOT1210_N (DPAK, 5-Leads, Body 3.4x2.7mm, Pitch 0.65mm, IPC Medium Density)
footprint NXP-SOT1210_L (DPAK, 5-Leads, Body 3.4x2.7mm, Pitch 0.65mm, IPC High Density)
footprint NXP-SOT1210_M (DPAK, 5-Leads, Body 3.4x2.7mm, Pitch 0.65mm, IPC Low Density)
pins: 1 S "source", 2 S "source", 3 S "source", 4 G "gate", 5 D "mounting base; connected to drain"
text: 1, 2, 3

## PSMN085-150K,518
designator Q?
N-Channel TrenchMOS SiliconMAX Standard Level FET, 150 V, 3.5 A, 8-Pin SOT96-1, Reel; Manufacturer: NXP Semiconductors; PartNumber: PSMN085-150K,518; Channel Type: N; Ciss [typ] (pF): 1310; Coss [typ] (pF): 170; ID [max] (A): 3.5; Qr [typ] (nC): 360; VDS [max] (V): 150; Code_IEC: 76000; DatasheetVersion: Rev. 3; PackageVersion: 03-02-18, 02/2003; PackageReference: SOT96-1; PackageDescription: 8-Pin Plastic Small Outline Package, Body 4.9 x 3.9 mm, Pitch 1.27 mm; Supplier 1: Digi-Key; Supplier Part Number 1: PSMN085-150K,518-ND; Supplier 2: Mouser; Supplier Part Number 2: 771-PSMN085-150K518; Packing: Reel; Mounting Technology: Surface Mount; Code_JEDEC: MS-012; ComponentLink1Description: Manufacturer URL; ComponentLink1URL: http://www.nxp.com/; ComponentLink2Description: Datasheet; ComponentLink2URL: http://www.nxp.com/documents/data_sheet/PSMN085-150K.pdf; ComponentLink3Description: Package Specification; ComponentLink3URL: http://www.nxp.com/documents/outline_drawing/sot096-1_po.pdf
footprint NXP-SOT96-1_N (SOIC, 8-Leads, Body 5x4mm, Pitch 1.27mm, IPC Medium Density)
footprint NXP-SOT96-1_L (SOIC, 8-Leads, Body 5x4mm, Pitch 1.27mm, IPC High Density)
footprint NXP-SOT96-1_M (SOIC, 8-Leads, Body 5x4mm, Pitch 1.27mm, IPC Low Density)
pins: 1 S "source", 2 S "source", 3 S "source", 4 G "gate", 5 D "drain", 6 D "drain", 7 D "drain", 8 D "drain"
text: 5-8; 1-3

## PSMN102-200Y,115
designator Q?
N-Channel TrenchMOS SiliconMAX Standard Level FET, 200 V, 21.5 A, 5-Pin SOT669, Tape and Reel; Manufacturer: NXP Semiconductors; PartNumber: PSMN102-200Y,115; Channel Type: N; Ciss [typ] (pF): 1568; Coss [typ] (pF): 170; ID [max] (A): 21.5; Packing: Tape & Reel; Qr [typ] (nC): 268; VDS [max] (V): 200; VGSth [typ] (V): 3; DatasheetVersion: Rev. 03; PackageVersion: 13-02-27, 02/2013; PackageReference: SOT669; PackageDescription: 4-Pin Plastic Single-ended Surface Mounted Package, Body 4.9 x 3.95 mm, Pitch 1.27 mm; Supplier 1: Digi-Key; Supplier Part Number 1: 568-6544-2-ND; Supplier 2: Digi-Key; Supplier Part Number 2: 568-6544-1-ND; Supplier 3: Digi-Key; Supplier Part Number 3: 568-6544-6-ND; Supplier 4: Newark; Supplier Part Number 4: 70R7955; Supplier 5: Mouser; Supplier Part Number 5: 771-PSMN102-200Y,115; Mounting Technology: Surface Mount; Code_JEDEC: MO-235; ComponentLink1Description: Manufacturer URL; ComponentLink1URL: http://www.nxp.com/; ComponentLink2Description: Datasheet; ComponentLink2URL: http://www.nxp.com/documents/data_sheet/PSMN102-200Y.pdf; ComponentLink3Description: Package Specification; ComponentLink3URL: http://www.nxp.com/documents/outline_drawing/sot669_po.pdf
footprint NXP-SOT669_N (DPAK, 4-Leads, Body 5x4.1mm, Pitch 1.27mm, IPC Medium Density)
footprint NXP-SOT669_L (DPAK, 4-Leads, Body 5x4.1mm, Pitch 1.27mm, IPC High Density)
footprint NXP-SOT669_M (DPAK, 4-Leads, Body 5x4.1mm, Pitch 1.27mm, IPC Low Density)
pins: 1 S "source", 2 S "source", 3 S "source", 4 G "gate", 5 D "mounting base; connected to drain"
text: 1, 2, 3

## PSMN130-200D,118
designator Q?
N-Channel TrenchMOS SiliconMAX Standard Level FET, 200 V, 20 A, 3-Pin SOT428, Tape and Reel; Manufacturer: NXP Semiconductors; PartNumber: PSMN130-200D,118; Channel Type: N; Ciss [typ] (pF): 2470; Coss [typ] (pF): 207; ID [max] (A): 20; Packing: Tape & Reel; Qr [typ] (nC): 740; VDS [max] (V): 200; VGSth [typ] (V): 3; DatasheetVersion: Rev. 04; PackageVersion: 14-06-10, 06/2014; PackageReference: SOT428; PackageDescription: 3-Pin Plastic Single-ended Surface Mounted Package, Body 6.1 x 6.6 mm, Pitch 2.285 mm; Supplier 1: Digi-Key; Supplier Part Number 1: 568-8114-2-ND; Supplier 2: Digi-Key; Supplier Part Number 2: 568-8114-1-ND; Supplier 3: Digi-Key; Supplier Part Number 3: 568-8114-6-ND; Supplier 4: Farnell; Supplier Part Number 4: 1758133; Supplier 5: Newark; Supplier Part Number 5: 75R4851; Supplier 6: Mouser; Supplier Part Number 6: 771-PSMN130-200D-/T3; Mounting Technology: Surface Mount; Code_JEITA: SC-63; Code_JEDEC: TO-252; ComponentLink1Description: Manufacturer URL; ComponentLink1URL: http://www.nxp.com/; ComponentLink2Description: Datasheet; ComponentLink2URL: http://www.nxp.com/documents/data_sheet/PSMN130-200D.pdf; ComponentLink3Description: Package Specification; ComponentLink3URL: http://www.nxp.com/documents/outline_drawing/sot428_po.pdf
footprint NXP-SOT428_N (DPAK, 3-Leads, Body 6.75x6.22mm, Pitch 2.29mm, IPC Medium Density)
footprint NXP-SOT428_L (DPAK, 3-Leads, Body 6.75x6.22mm, Pitch 2.29mm, IPC High Density)
footprint NXP-SOT428_M (DPAK, 3-Leads, Body 6.75x6.22mm, Pitch 2.29mm, IPC Low Density)
pins: 1 G "gate", 3 S "source", 4 D "mounting base; connected to drain"

## PSMN165-200K,518
designator Q?
N-Channel TrenchMOS SiliconMAX Standard Level FET, 200 V, 2.9 A, 8-Pin SOT96-1, Reel; Manufacturer: NXP Semiconductors; PartNumber: PSMN165-200K,518; Channel Type: N; Ciss [typ] (pF): 1330; Coss [typ] (pF): 140; ID [max] (A): 2.9; Qr [typ] (nC): 450; VDS [max] (V): 200; Code_IEC: 76000; DatasheetVersion: Rev. 02; PackageVersion: 03-02-18, 02/2003; PackageReference: SOT96-1; PackageDescription: 8-Pin Plastic Small Outline Package, Body 4.9 x 3.9 mm, Pitch 1.27 mm; Supplier 1: Digi-Key; Supplier Part Number 1: PSMN165-200K,518-ND; Supplier 2: Newark; Supplier Part Number 2: 70R7957; Supplier 3: Mouser; Supplier Part Number 3: 771-PSMN165-200K518; Packing: Reel; Mounting Technology: Surface Mount; Code_JEDEC: MS-012; ComponentLink1Description: Manufacturer URL; ComponentLink1URL: http://www.nxp.com/; ComponentLink2Description: Datasheet; ComponentLink2URL: http://www.nxp.com/documents/data_sheet/PSMN165-200K.pdf; ComponentLink3Description: Package Specification; ComponentLink3URL: http://www.nxp.com/documents/outline_drawing/sot096-1_po.pdf
footprint NXP-SOT96-1_N (SOIC, 8-Leads, Body 5x4mm, Pitch 1.27mm, IPC Medium Density)
footprint NXP-SOT96-1_L (SOIC, 8-Leads, Body 5x4mm, Pitch 1.27mm, IPC High Density)
footprint NXP-SOT96-1_M (SOIC, 8-Leads, Body 5x4mm, Pitch 1.27mm, IPC Low Density)
pins: 1 S "source", 2 S "source", 3 S "source", 4 G "gate", 5 D "drain", 6 D "drain", 7 D "drain", 8 D "drain"
text: 5-8; 1-3

## PSMNR90-30BL,118
designator Q?
N-Channel Logic Level MOSFET, 30 V, 120 A, 3-Pin SOT404, Tape and Reel; Manufacturer: NXP Semiconductors; PartNumber: PSMNR90-30BL,118; Channel Type: N; Ciss [typ] (pF): 14850; Coss [typ] (pF): 2799; ID [max] (A): 120; Packing: Tape & Reel; Qr [typ] (nC): 123; VDS [max] (V): 30; VGSth [typ] (V): 1.7; PackageVersion: 13-02-25, 02/2013; PackageReference: SOT404; PackageDescription: 3-Pin Plastic Single-ended Surface Mounted Package, Body 10 x 9.6 mm, Pitch 2.54 mm; Supplier 1: Digi-Key; Supplier Part Number 1: 568-9480-2-ND; Supplier 2: Digi-Key; Supplier Part Number 2: 568-9480-1-ND; Supplier 3: Digi-Key; Supplier Part Number 3: 568-9480-6-ND; Supplier 4: Mouser; Supplier Part Number 4: 771-PSMNR90-30BL,118; Mounting Technology: Surface Mount; ComponentLink1Description: Manufacturer URL; ComponentLink1URL: http://www.nxp.com/; ComponentLink2Description: Datasheet; ComponentLink2URL: http://www.nxp.com/documents/data_sheet/PSMNR90-30BL.pdf; ComponentLink3Description: Package Specification; ComponentLink3URL: http://www.nxp.com/documents/outline_drawing/sot404_po.pdf
footprint NXP-SOT404_N (DPAK, 3-Leads, Body 10.3x9.8mm, Pitch 2.54mm, IPC Medium Density)
footprint NXP-SOT404_L (DPAK, 3-Leads, Body 10.3x9.8mm, Pitch 2.54mm, IPC High Density)
footprint NXP-SOT404_M (DPAK, 3-Leads, Body 10.3x9.8mm, Pitch 2.54mm, IPC Low Density)
pins: 1 G "gate", 3 S "source", 4 D "mounting base; connected to drain"

## SI2302DS,215
designator Q?
N-Channel Enhancement Mode Field-Effect Transistor, 20 V, 2.5 A, 3-Pin SOT23, Tape and Reel; Manufacturer: NXP Semiconductors; PartNumber: SI2302DS,215; Channel Type: N; Ciss [typ] (pF): 230; Coss [typ] (pF): 125; ID [max] (A): 2.5; Packing: Tape & Reel; VDS [max] (V): 20; DatasheetVersion: Rev. 02; PackageVersion: 06-03-16, 03/2006; PackageReference: SOT23; PackageDescription: 3-Pin Small Outline Transistor Package, Body 2.9 x 1.3 mm, Pitch 0.95 mm; Supplier 1: Digi-Key; Supplier Part Number 1: 568-5956-2-ND; Supplier 2: Digi-Key; Supplier Part Number 2: 568-5956-1-ND; Supplier 3: Digi-Key; Supplier Part Number 3: 568-5956-6-ND; Supplier 4: Farnell; Supplier Part Number 4: 1758124; Supplier 5: Farnell; Supplier Part Number 5: 1758124RL; Supplier 6: Farnell; Supplier Part Number 6: 2423104; Supplier 7: Newark; Supplier Part Number 7: 75R4872; Supplier 8: Newark; Supplier Part Number 8: 70R9092; Supplier 9: Mouser; Supplier Part Number 9: 771-SI2302DS-T/R; Mounting Technology: Surface Mount; Code_JEDEC: TO-236AB; ComponentLink1Description: Manufacturer URL; ComponentLink1URL: http://www.nxp.com/; ComponentLink2Description: Datasheet; ComponentLink2URL: http://www.nxp.com/documents/data_sheet/SI2302DS.pdf; ComponentLink3Description: Package Specification; ComponentLink3URL: http://www.nxp.com/documents/outline_drawing/sot023_po.pdf
footprint NXP-SOT23_N (SOT23, 3-Leads, Body 3x1.4mm, Pitch 0.95mm, IPC Medium Density)
footprint NXP-SOT23_L (SOT23, 3-Leads, Body 3x1.4mm, Pitch 0.95mm, IPC High Density)
footprint NXP-SOT23_M (SOT23, 3-Leads, Body 3x1.4mm, Pitch 0.95mm, IPC Low Density)
pins: 1 G "gate", 2 S "source", 3 D "drain"

## SI2304DS,215
designator Q?
N-Channel Enhancement Mode Field-Effect Transistor, 30 V, 1.7 A, 3-Pin SOT23, Tape and Reel; Manufacturer: NXP Semiconductors; PartNumber: SI2304DS,215; Channel Type: N; Ciss [typ] (pF): 147; Coss [typ] (pF): 65; ID [max] (A): 1.7; Packing: Tape & Reel; VDS [max] (V): 30; VGSth [typ] (V): 2; DatasheetVersion: Rev. 01; PackageVersion: 06-03-16, 03/2006; PackageReference: SOT23; PackageDescription: 3-Pin Small Outline Transistor Package, Body 2.9 x 1.3 mm, Pitch 0.95 mm; Supplier 1: Digi-Key; Supplier Part Number 1: 568-5957-2-ND; Supplier 2: Digi-Key; Supplier Part Number 2: 568-5957-1-ND; Supplier 3: Digi-Key; Supplier Part Number 3: 568-5957-6-ND; Supplier 4: Farnell; Supplier Part Number 4: 1758125; Supplier 5: Farnell; Supplier Part Number 5: 1758125RL; Supplier 6: Farnell; Supplier Part Number 6: 2164259; Supplier 7: Newark; Supplier Part Number 7: 75R4873; Supplier 8: Mouser; Supplier Part Number 8: 771-SI2304DS215; Mounting Technology: Surface Mount; Code_JEDEC: TO-236AB; ComponentLink1Description: Manufacturer URL; ComponentLink1URL: http://www.nxp.com/; ComponentLink2Description: Datasheet; ComponentLink2URL: http://www.nxp.com/documents/data_sheet/SI2304DS.pdf; ComponentLink3Description: Package Specification; ComponentLink3URL: http://www.nxp.com/documents/outline_drawing/sot023_po.pdf
footprint NXP-SOT23_N (SOT23, 3-Leads, Body 3x1.4mm, Pitch 0.95mm, IPC Medium Density)
footprint NXP-SOT23_L (SOT23, 3-Leads, Body 3x1.4mm, Pitch 0.95mm, IPC High Density)
footprint NXP-SOT23_M (SOT23, 3-Leads, Body 3x1.4mm, Pitch 0.95mm, IPC Low Density)
pins: 1 G "gate", 2 S "source", 3 D "drain"